# EAGLE library part CY8C21323_QFN24 (library CY8C4125AXI)
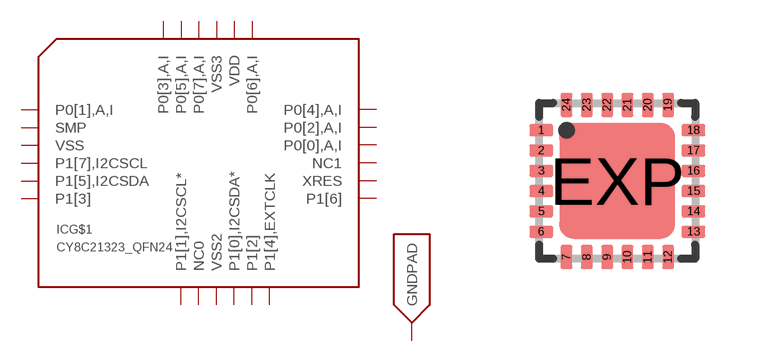
[diagram p21: symbol with the pads of QFN24; footprint QFN24]

Designator prefix IC; gates G$1=CY8C21323_QFN24 G$2=GNDPAD

## CY8C21323_QFN24  [QFN24]
1  G$1:P0[1],A,I
2  G$1:SMP  pwr
3  G$1:VSS  pwr
4  G$1:P1[7],I2CSCL
5  G$1:P1[5],I2CSDA
6  G$1:P1[3]
7  G$1:P1[1],I2CSCL*
8  G$1:NC0  nc
9  G$1:VSS2  pwr
10  G$1:P1[0],I2CSDA*
11  G$1:P1[2]
12  G$1:P1[4],EXTCLK
13  G$1:P1[6]
14  G$1:XRES
15  G$1:NC1  nc
16  G$1:P0[0],A,I
17  G$1:P0[2],A,I
18  G$1:P0[4],A,I
19  G$1:P0[6],A,I
20  G$1:VDD  pwr
21  G$1:VSS3  pwr
22  G$1:P0[7],A,I
23  G$1:P0[5],A,I
24  G$1:P0[3],A,I
EXP  G$2:GNDPAD  pwr

## Footprint QFN24 (pad centres in mm)
QFN 4x4 mm Source: http://www.hittite.com/product_info/product_specs/dividersdetectors/hmc394lp4.pdf
smd 0.6 x 0.3: 1 -1.905,1.27; 2 -1.905,0.762; 3 -1.905,0.254; 4 -1.905,-0.254; 5 -1.905,-0.762; 6 -1.905,-1.27; 13 1.905,-1.27; 14 1.905,-0.762; 15 1.905,-0.254; 16 1.905,0.254; 17 1.905,0.762; 18 1.905,1.27
smd 0.3 x 0.6: 7 -1.27,-1.905; 8 -0.762,-1.905; 9 -0.254,-1.905; 10 0.254,-1.905; 11 0.762,-1.905; 12 1.27,-1.905; 19 1.27,1.905; 20 0.762,1.905; 21 0.254,1.905; 22 -0.254,1.905; 23 -0.762,1.905; 24 -1.27,1.905
smd 2.9 x 2.9: EXP 0,0